# EAGLE library part PIC16F785 (library microchip)
OpeAmpx2 2Phase PWM 20pin
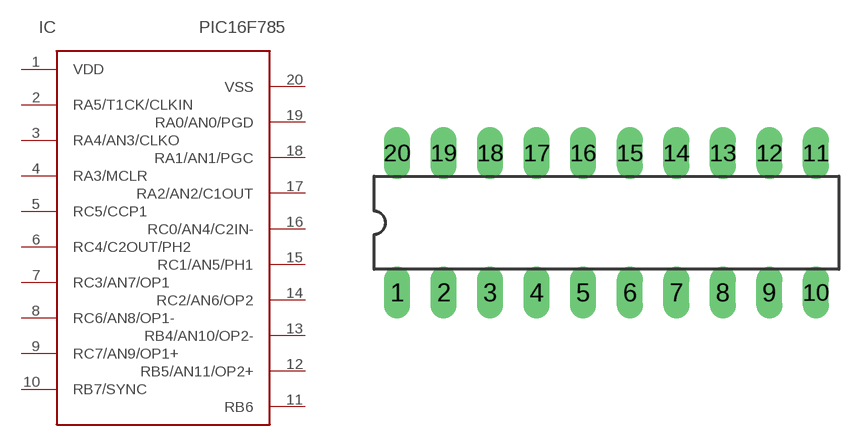
[diagram p30: symbol with the pads of DIL20; footprint DIL20]

Designator prefix IC

## PIC16F785  [DIL20]
1  VDD
2  RA5/T1CK/CLKIN
3  RA4/AN3/CLKO
4  RA3/MCLR
5  RC5/CCP1
6  RC4/C2OUT/PH2
7  RC3/AN7/OP1
8  RC6/AN8/OP1-
9  RC7/AN9/OP1+
10  RB7/SYNC
11  RB6
12  RB5/AN11/OP2+
13  RB4/AN10/OP2-
14  RC2/AN6/OP2
15  RC1/AN5/PH1
16  RC0/AN4/C2IN-
17  RA2/AN2/C1OUT
18  RA1/AN1/PGC
19  RA0/AN0/PGD
20  VSS

## Footprint DIL20 (pad centres in mm)
drill 0.7 pad 1.422 long: 1 -10.16,-3.81; 2 -7.62,-3.81; 3 -5.08,-3.81; 4 -2.54,-3.81; 5 0,-3.81; 6 2.54,-3.81; 7 5.08,-3.81; 8 7.62,-3.81; 9 10.16,-3.81; 10 12.7,-3.81; 11 12.7,3.81; 12 10.16,3.81; 13 7.62,3.81; 14 5.08,3.81; 15 2.54,3.81; 16 0,3.81; 17 -2.54,3.81; 18 -5.08,3.81; 19 -7.62,3.81; 20 -10.16,3.81